# Altium schematic symbol library MT6305B.SchLib: 1 symbol
Pins are listed as number, name and electrical type; pins without a type are passive.

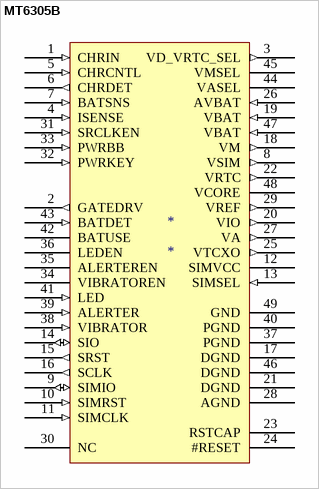
[diagram p0: symbol MT6305B]

## MT6305B
designator *
footprint MT6305 (QFN, 48-Leads, Body 7,00x7,00mm, Pitch 0,50mm, Thermal Pad 5,47x5,47mm, IPC Medium Density)
pins: 1 CHRIN (in), 2 GATEDRV (out), 3 VD_VRTC_SEL (out), 4 ISENSE (in), 5 CHRCNTL (in), 6 CHRDET (out), 7 BATSNS (in), 8 VSIM (out), 9 SIMIO (io), 10 SIMRST (in), 11 SIMCLK (in), 12 SIMVCC, 13 SIMSEL (in), 14 SIO (io), 15 SRST (out), 16 SCLK (out), 17 DGND, 18 VM (out), 19 VBAT (in), 20 VIO (out), 21 DGND, 22 VRTC (out), 23 RSTCAP, 24 #RESET, 25 VTCXO (out), 26 AVBAT (in), 27 VA (out), 28 AGND, 29 VREF (out), 30 NC, 31 SRCLKEN (in), 32 PWRKEY (in), 33 PWRBB (in), 34 VIBRATOREN, 35 ALERTEREN, 36 LEDEN, 37 PGND, 38 VIBRATOR (in), 39 ALERTER (in), 40 PGND, 41 LED (in), 42 BATUSE, 43 BATDET (in), 44 VASEL, 45 VMSEL, 46 DGND, 47 VBAT (in), 48 VCORE, 49 GND